# Altium footprint library Custom.PcbLib: 47 footprints (part 3 of 3)
Each footprint in its own frame and in the unit in brackets; x right, y up, seen from the top. Pads: shape width x height; smd on the part's side, far side on the other; paste and mask are expansions set on the pad; w line width, h text height; cw(c..) or ccw(c..) is an arc to the next point about the centre after c.
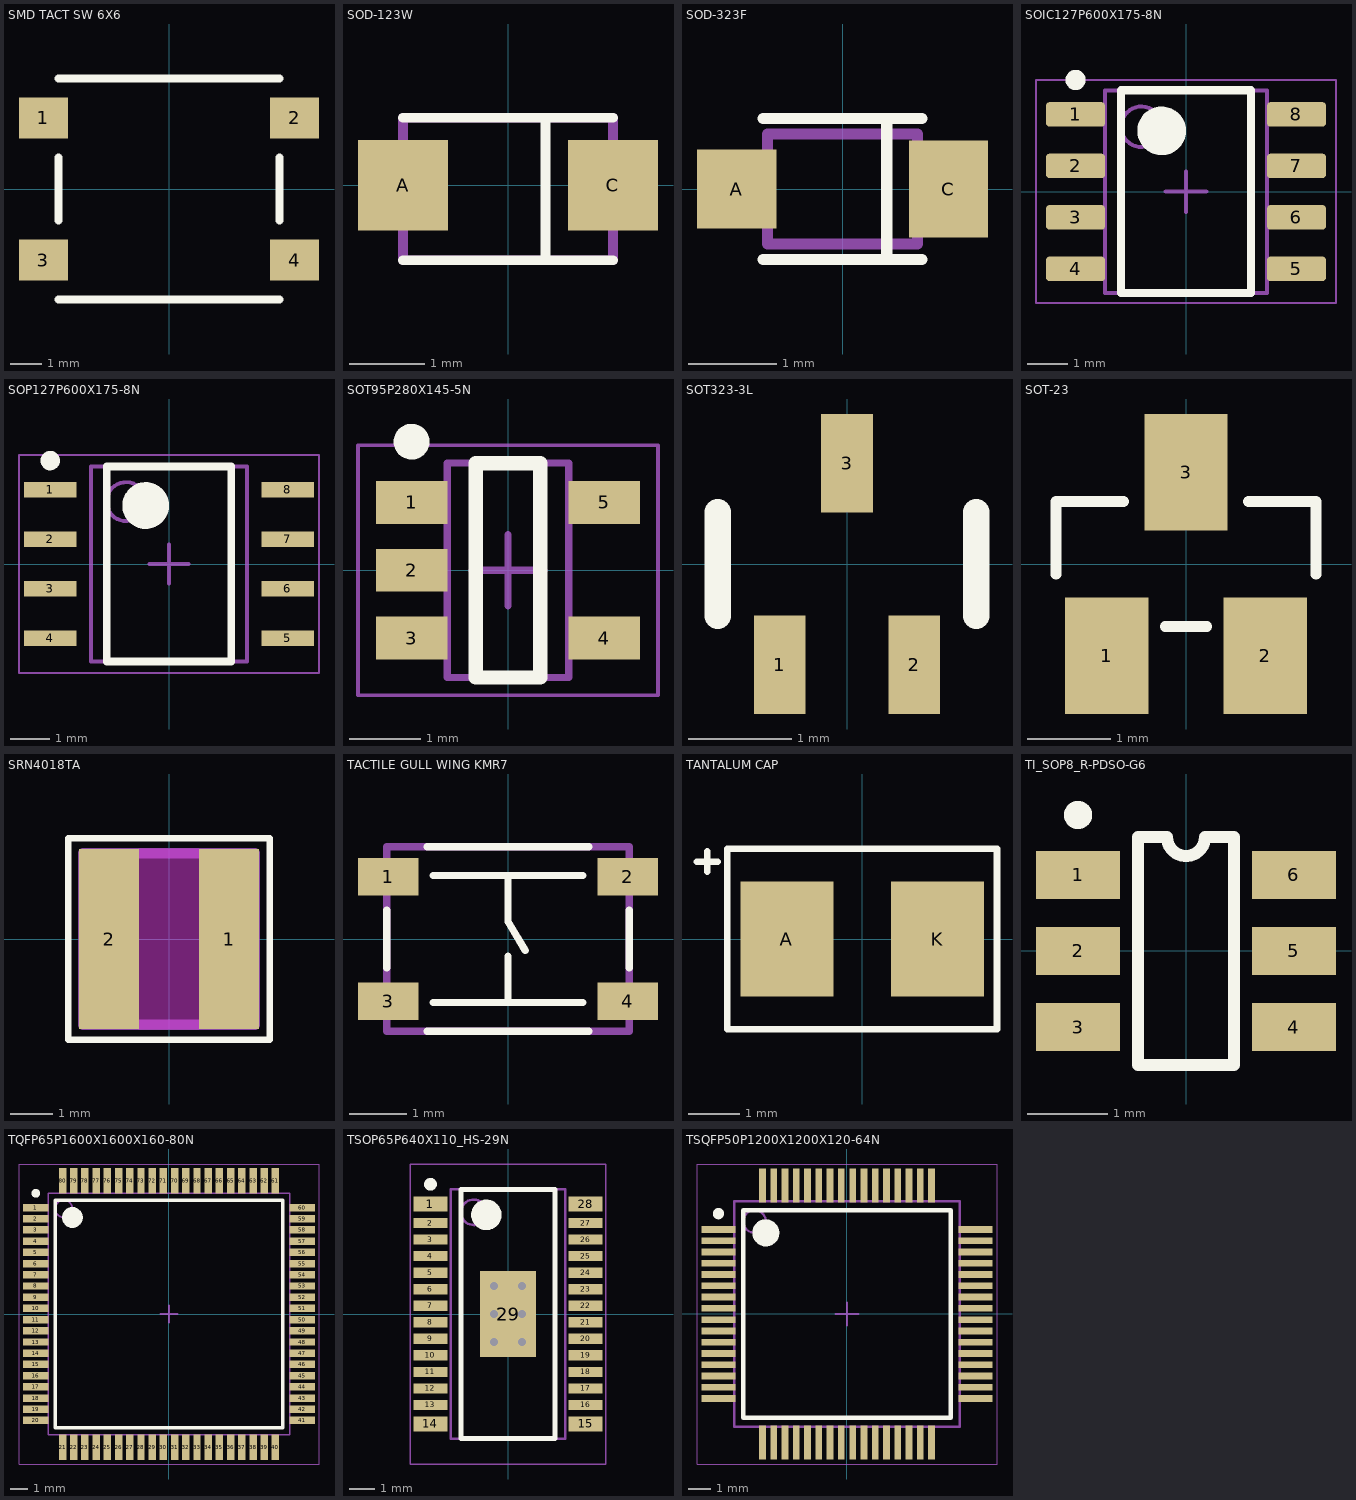
[diagram p2: the footprints below, top view; thin cyan lines are the x and y axes]

## SMD TACT SW 6X6 [mm] "C&K 6mm x 6mm SMD Tactile Switch, 4.30mm height"
height 4.3
pads (4):
  rect 1.55x1.3 smd: 1(-3.975,2.25) 2(3.975,2.25) 3(-3.975,-2.25) 4(3.975,-2.25)
Top Overlay:
  lines w0.254: -3.5,-3.5 3.5,-3.5 ; -3.5,-1 -3.5,1 ; -3.5,3.5 3.5,3.5 ; 3.5,-1 3.5,1
3D body "User Library-PTS645SL43SMTR92-LFS.STEP": height 4.3, standoff 0, extent -4.5,-3 4.5,3

## SOD-123W [mm] "Diode SOD-123W Package"
height 1.1
pads (2):
  rect 1.2x1.2 smd: A(-1.4,0) C(1.4,0)
Top Overlay:
  lines w0.127: -1.4,-1 1.4,-1 ; -1.4,0.9 1.4,0.9 ; 0.5,-1 0.5,0.9
Mechanical 13:
  lines w0.127: -1.4,-1 -1.4,0.9 1.4,0.9 1.4,-1 -1.4,-1
3D body "User Library-SOD123-1.step": height 1.18, standoff 0, extent -1.95,-0.9 1.95,0.9

## SOD-323F [mm] "Diode SOD-323F Package"
height 0.7
pads (2):
  rect 0.9x0.9 smd: A(-1.2,0)
  rect 0.9x1.1 smd: C(1.2,0)
Top Overlay:
  lines w0.127: -0.9,-0.8 0.9,-0.8 ; -0.9,0.8 0.9,0.8 ; 0.5,-0.8 0.5,0.8
Mechanical 13:
  lines w0.127: -0.85,-0.625 0.85,-0.625 0.85,0.625 -0.85,0.625 -0.85,-0.625
3D body "User Library-SOD323F-1.step": height 1, standoff 0, extent -1.25,-0.675 1.25,0.675

## SOIC127P600X175-8N [mm] "SOIC, 8-Leads, Body 4.90x3.90mm, Pitch 1.27mm, IPC Medium Density"
height 1.75
pads (8):
  rrect25% 1.45x0.6 smd: 1(-2.725,1.905) 2(-2.725,0.635) 3(-2.725,-0.635) 4(-2.725,-1.905) 5(2.725,-1.905) 6(2.725,-0.635) 7(2.725,0.635) 8(2.725,1.905)
Top Overlay:
  circle w0.6: c-0.6,1.5 r0.3
  circle w0.25: c-2.725,2.755 r0.125
  lines w0.2: -1.6,-2.5 1.6,-2.5 1.6,2.5 -1.6,2.5 -1.6,-2.5
Mechanical 13:
  circle w0.1: c-1.1,1.6 r0.5
  lines w0.1: -2,-2.5 2,-2.5 2,2.5 -2,2.5 -2,-2.5
Mechanical 15:
  lines w0.05: -3.7,-2.75 3.7,-2.75 3.7,2.75 -3.7,2.75 -3.7,-2.75
  lines w0.1: -0.5,0 0.5,0 ; 0,-0.5 0,0.5
3D body "User Library-so8-3.step": height 1.7, standoff 0, extent -3,-2.45 3,2.45

## SOP127P600X175-8N [mm] "SOP, 8-Leads, Body 4.90x3.90mm, Pitch 1.27mm, IPC Medium Density"
height 1.75
pads (8):
  rect 1.35x0.4 smd: 1(-3.05,1.905) 2(-3.05,0.635) 3(-3.05,-0.635) 4(-3.05,-1.905) 5(3.05,-1.905) 6(3.05,-0.635) 7(3.05,0.635) 8(3.05,1.905)
Top Overlay:
  circle w0.6: c-0.6,1.5 r0.3
  circle w0.25: c-3.05,2.655 r0.125
  lines w0.2: -1.6,-2.5 1.6,-2.5 1.6,2.5 -1.6,2.5 -1.6,-2.5
Mechanical 13:
  circle w0.1: c-1.1,1.6 r0.5
  lines w0.1: -2,-2.5 2,-2.5 2,2.5 -2,2.5 -2,-2.5
Mechanical 15:
  lines w0.05: -3.85,-2.8 3.85,-2.8 3.85,2.8 -3.85,2.8 -3.85,-2.8
  lines w0.1: -0.5,0 0.5,0 ; 0,-0.5 0,0.5
3D body "CircuitWorks-SO-8.step": height 1.45, standoff 0, extent -2.9,-2.451 2.878,2.451

## SOT95P280X145-5N [mm] "SOT23, 5-Leads, Body 2.90x2.80mm, Pitch 0.95mm, IPC Medium Density"
height 1.45
pads (5):
  rect 1x0.6 smd: 1(-1.35,0.95) 2(-1.35,0) 3(-1.35,-0.95) 4(1.35,-0.95) 5(1.35,0.95)
Top Overlay:
  circle w0.25: c-1.35,1.8 r0.125
  lines w0.2: -0.45,-1.5 0.45,-1.5 0.45,1.5 -0.45,1.5 -0.45,-1.5
Mechanical 13:
  lines w0.1: -0.85,-1.5 -0.85,1.5 0.85,1.5 0.85,-1.5 -0.85,-1.5
Mechanical 15:
  lines w0.05: -2.1,-1.75 -2.1,1.75 2.1,1.75 2.1,-1.75 -2.1,-1.75
  lines w0.1: -0.5,0 0.5,0 ; 0,-0.5 0,0.5
3D body "User Library-SOT23-5-2.step": height 1.45, standoff 0, extent -1.4,-1.45 1.4,1.45

## SOT323-3L [mm] "3-pin SOT package"
height 1
pads (3):
  rect 0.5x0.95 smd: 1(-0.65,-0.975) 2(0.65,-0.975) 3(0,0.975)
Top Overlay:
  lines w0.254: -1.25,-0.5 -1.25,0.5 ; 1.25,-0.5 1.25,0.5
3D body "User Library-sc70-3.step": height 1, standoff 0, extent -1.05,-1.15 1.05,1.15

## SOT-23 [mm] "SOT-23 Package for BSS138"
pads (3):
  rect 1x1.4 smd: 1(-0.95,-1.1) 2(0.95,-1.1) 3(0,1.1)
Top Overlay:
  lines w0.127: -1.56,-0.125 -1.56,0.75 -0.75,0.75 ; -0.25,-0.75 0.25,-0.75 ; 0.75,0.75 1.56,0.75 1.56,-0.125
3D body "User Library-SOT23-3.step": height 1.3, standoff 0, extent -1.45,-1.4 1.45,1.4

## SRN4018TA [mm]
height 1.8
pads (2):
  rect 1.4x4.2 smd: 1(1.4,0) 2(-1.4,0)
Top Layer keep-out:
  region: -0.7,2.1 0.7,2.1 0.7,-2.1 -0.7,-2.1
Top Overlay:
  lines w0.152: -2.35,-2.35 2.35,-2.35 2.35,2.35 -2.35,2.35 -2.35,-2.35
Mechanical 13:
  lines w0.254: -2,-2 -2,2 2,2 2,-2 -2,-2
3D body "srn4012t-4r7m.stp": height 1.2, standoff -0.01, extent -2.01,-2.01 2.01,2.01

## TACTILE GULL WING KMR7 [mm] "PTS810 Series Tactile Switch Footprint"
height 2.5
pads (4):
  rect 1.05x0.65 smd: 1(-2.075,1.075) 2(2.075,1.075) 3(-2.075,-1.075) 4(2.075,-1.075)
Top Overlay:
  lines w0.127: -2.1,-0.5 -2.1,0.5 ; -1.4,-1.6 1.4,-1.6 ; -1.4,1.6 1.4,1.6 ; -1.3,-1.1 1.3,-1.1 ; -1.3,1.1 1.3,1.1 ; 0,-1.1 0,-0.3 ; 0,1.1 0,0.3 0.3,-0.2 ; 2.1,-0.5 2.1,0.5
Mechanical 13:
  lines w0.127: -2.1,-1.6 2.1,-1.6 2.1,1.6 -2.1,1.6 -2.1,-1.6
3D body "43472.stp": height 2.5, standoff 0, extent -2.3,-1.6 2.3,1.6

## TANTALUM CAP [mm] "1411 (3528 Metric) Tantalum Capacitor"
height 2.1
pads (2):
  rect 1.8x2.23 smd: A(-1.46,0) K(1.46,0)
Top Overlay:
  lines w0.127: -3.2,1.5 -2.8,1.5 ; -3,1.3 -3,1.7 ; -2.61,-1.75 2.61,-1.75 2.61,1.75 -2.61,1.75 -2.61,-1.75
3D body "User Library-CaseB_3528-21.step": height 1.9, standoff 0, extent -1.75,-1.4 1.75,1.4

## TI_SOP8_R-PDSO-G6 [mm]
pads (6):
  rect 1.05x0.6 smd: 1(-1.35,0.95) 2(-1.35,0) 3(-1.35,-0.95) 4(1.35,-0.95) 5(1.35,0) 6(1.35,0.95)
Top Overlay:
  circle w0.203: c-1.35,1.7 r0.075
  lines w0.152: -0.6,-1.425 -0.6,1.425 -0.238,1.425 ccw(c0,1.425) 0.238,1.425 0.6,1.425 0.6,-1.425 -0.6,-1.425
3D body "User Library-SSOT-6.STEP": height 1.05, standoff 0, extent -1.5,-1.5 1.5,1.5
3D body: height 1.5, standoff -1.5, extent 0.025,-0.075 0.025,-0.075

## TQFP65P1600X1600X160-80N [mm] "TQFP, 80-Leads, Body 14.00x14.00mm, Pitch 0.65mm, IPC Medium Density"
height 1.6
pads (80):
  rect 1.473x0.432 smd: 1(-7.725,6.175) 2(-7.725,5.525) 3(-7.725,4.875) 4(-7.725,4.225) 5(-7.725,3.575) 6(-7.725,2.925) 7(-7.725,2.275) 8(-7.725,1.625) 9(-7.725,0.975) 10(-7.725,0.325) 11(-7.725,-0.325) 12(-7.725,-0.975) 13(-7.725,-1.625) 14(-7.725,-2.275) 15(-7.725,-2.925) 16(-7.725,-3.575) 17(-7.725,-4.225) 18(-7.725,-4.875) 19(-7.725,-5.525) 20(-7.725,-6.175) 41(7.725,-6.175) 42(7.725,-5.525) 43(7.725,-4.875) 44(7.725,-4.225) 45(7.725,-3.575) 46(7.725,-2.925) 47(7.725,-2.275) 48(7.725,-1.625) 49(7.725,-0.975) 50(7.725,-0.325) 51(7.725,0.325) 52(7.725,0.975) 53(7.725,1.625) 54(7.725,2.275) 55(7.725,2.925) 56(7.725,3.575) 57(7.725,4.225) 58(7.725,4.875) 59(7.725,5.525) 60(7.725,6.175)
  rect 0.432x1.473 smd: 21(-6.175,-7.725) 22(-5.525,-7.725) 23(-4.875,-7.725) 24(-4.225,-7.725) 25(-3.575,-7.725) 26(-2.925,-7.725) 27(-2.275,-7.725) 28(-1.625,-7.725) 29(-0.975,-7.725) 30(-0.325,-7.725) 31(0.325,-7.725) 32(0.975,-7.725) 33(1.625,-7.725) 34(2.275,-7.725) 35(2.925,-7.725) 36(3.575,-7.725) 37(4.225,-7.725) 38(4.875,-7.725) 39(5.525,-7.725) 40(6.175,-7.725) 61(6.175,7.725) 62(5.525,7.725) 63(4.875,7.725) 64(4.225,7.725) 65(3.575,7.725) 66(2.925,7.725) 67(2.275,7.725) 68(1.625,7.725) 69(0.975,7.725) 70(0.325,7.725) 71(-0.325,7.725) 72(-0.975,7.725) 73(-1.625,7.725) 74(-2.275,7.725) 75(-2.925,7.725) 76(-3.575,7.725) 77(-4.225,7.725) 78(-4.875,7.725) 79(-5.525,7.725) 80(-6.175,7.725)
Top Overlay:
  circle w0.25: c-7.725,7 r0.125
  circle w0.6: c-5.6,5.6 r0.3
  lines w0.2: -6.6,-6.6 -6.6,6.6 6.6,6.6 6.6,-6.6 -6.6,-6.6
Mechanical 13:
  circle w0.1: c-6.1,6.1 r0.5
  lines w0.1: -7,-7 -7,7 7,7 7,-7 -7,-7
Mechanical 15:
  lines w0.05: -8.7,-8.7 -8.7,8.7 8.7,8.7 8.7,-8.7 -8.7,-8.7
  lines w0.1: -0.5,0 0.5,0 ; 0,-0.5 0,0.5
3D body: height 1.6, standoff 0.25, extent -7,-7 7,7

## TSOP65P640X110_HS-29N [mm] "TSOP, 28-Leads, Body 9.70x4.40mm, Pitch 0.65mm, Thermal Pad 3.40x2.20mm, IPC Medium Density"
height 1.1
pads (29):
  rect 1.35x0.6 smd: 1(-3.05,4.325) 14(-3.05,-4.325) 15(3.05,-4.325) 28(3.05,4.325)
  rect 1.35x0.4 smd: 2(-3.05,3.575) 3(-3.05,2.925) 4(-3.05,2.275) 5(-3.05,1.625) 6(-3.05,0.975) 7(-3.05,0.325) 8(-3.05,-0.325) 9(-3.05,-0.975) 10(-3.05,-1.625) 11(-3.05,-2.275) 12(-3.05,-2.925) 13(-3.05,-3.575) 16(3.05,-3.575) 17(3.05,-2.925) 18(3.05,-2.275) 19(3.05,-1.625) 20(3.05,-0.975) 21(3.05,-0.325) 22(3.05,0.325) 23(3.05,0.975) 24(3.05,1.625) 25(3.05,2.275) 26(3.05,2.925) 27(3.05,3.575)
  rect 2.2x3.4 smd: 29(0,0)
via 0.55,-1.1 diameter 0.686 hole 0.33
via -0.55,-1.1 diameter 0.686 hole 0.33
via 0.55,0 diameter 0.686 hole 0.33
via -0.55,0 diameter 0.686 hole 0.33
via 0.55,1.1 diameter 0.686 hole 0.33
via -0.55,1.1 diameter 0.686 hole 0.33
Top Overlay:
  circle w0.6: c-0.85,3.9 r0.3
  circle w0.25: c-3.05,5.102 r0.125
  lines w0.2: -1.85,-4.9 1.85,-4.9 1.85,4.9 -1.85,4.9 -1.85,-4.9
Mechanical 13:
  circle w0.1: c-1.35,4 r0.5
  lines w0.1: -2.25,-4.9 2.25,-4.9 2.25,4.9 -2.25,4.9 -2.25,-4.9
Mechanical 15:
  lines w0.05: -3.85,-5.9 3.85,-5.9 3.85,5.9 -3.85,5.9 -3.85,-5.9
  lines w0.1: -0.5,0 0.5,0 ; 0,-0.5 0,0.5
3D body: height 1.1, standoff 0.05, extent -2.25,-4.9 2.25,4.9

## TSQFP50P1200X1200X120-64N [mm] "TSQFP, 64-Leads, Body 10.00x10.00mm, Pitch 0.50mm, IPC Medium Density"
height 1.2
pads (64):
  rect 1.5x0.3 smd: 1(-5.7,3.75) 2(-5.7,3.25) 3(-5.7,2.75) 4(-5.7,2.25) 5(-5.7,1.75) 6(-5.7,1.25) 7(-5.7,0.75) 8(-5.7,0.25) 9(-5.7,-0.25) 10(-5.7,-0.75) 11(-5.7,-1.25) 12(-5.7,-1.75) 13(-5.7,-2.25) 14(-5.7,-2.75) 15(-5.7,-3.25) 16(-5.7,-3.75) 33(5.7,-3.75) 34(5.7,-3.25) 35(5.7,-2.75) 36(5.7,-2.25) 37(5.7,-1.75) 38(5.7,-1.25) 39(5.7,-0.75) 40(5.7,-0.25) 41(5.7,0.25) 42(5.7,0.75) 43(5.7,1.25) 44(5.7,1.75) 45(5.7,2.25) 46(5.7,2.75) 47(5.7,3.25) 48(5.7,3.75)
  rect 0.3x1.5 smd: 17(-3.75,-5.7) 18(-3.25,-5.7) 19(-2.75,-5.7) 20(-2.25,-5.7) 21(-1.75,-5.7) 22(-1.25,-5.7) 23(-0.75,-5.7) 24(-0.25,-5.7) 25(0.25,-5.7) 26(0.75,-5.7) 27(1.25,-5.7) 28(1.75,-5.7) 29(2.25,-5.7) 30(2.75,-5.7) 31(3.25,-5.7) 32(3.75,-5.7) 49(3.75,5.7) 50(3.25,5.7) 51(2.75,5.7) 52(2.25,5.7) 53(1.75,5.7) 54(1.25,5.7) 55(0.75,5.7) 56(0.25,5.7) 57(-0.25,5.7) 58(-0.75,5.7) 59(-1.25,5.7) 60(-1.75,5.7) 61(-2.25,5.7) 62(-2.75,5.7) 63(-3.25,5.7) 64(-3.75,5.7)
Top Overlay:
  circle w0.25: c-5.7,4.45 r0.125
  circle w0.6: c-3.6,3.6 r0.3
  lines w0.2: -4.6,-4.6 -4.6,4.6 4.6,4.6 4.6,-4.6 -4.6,-4.6
Mechanical 13:
  circle w0.1: c-4.1,4.1 r0.5
  lines w0.1: -5,-5 -5,5 5,5 5,-5 -5,-5
Mechanical 15:
  lines w0.05: -6.65,-6.65 -6.65,6.65 6.65,6.65 6.65,-6.65 -6.65,-6.65
  lines w0.1: -0.5,0 0.5,0 ; 0,-0.5 0,0.5
3D body "User Library-TQFP64-2.STEP": height 1.18, standoff -0.02, extent -6.1,-6.1 6.1,6.1